# EAGLE library part XC2C128-7TQ144C (library CPLD)
IC CPLD 128MC 7NS 144QFP Manufacturer's datasheet <https://www.xilinx.com/support/documentation/data_sheets/ds093.pdf>
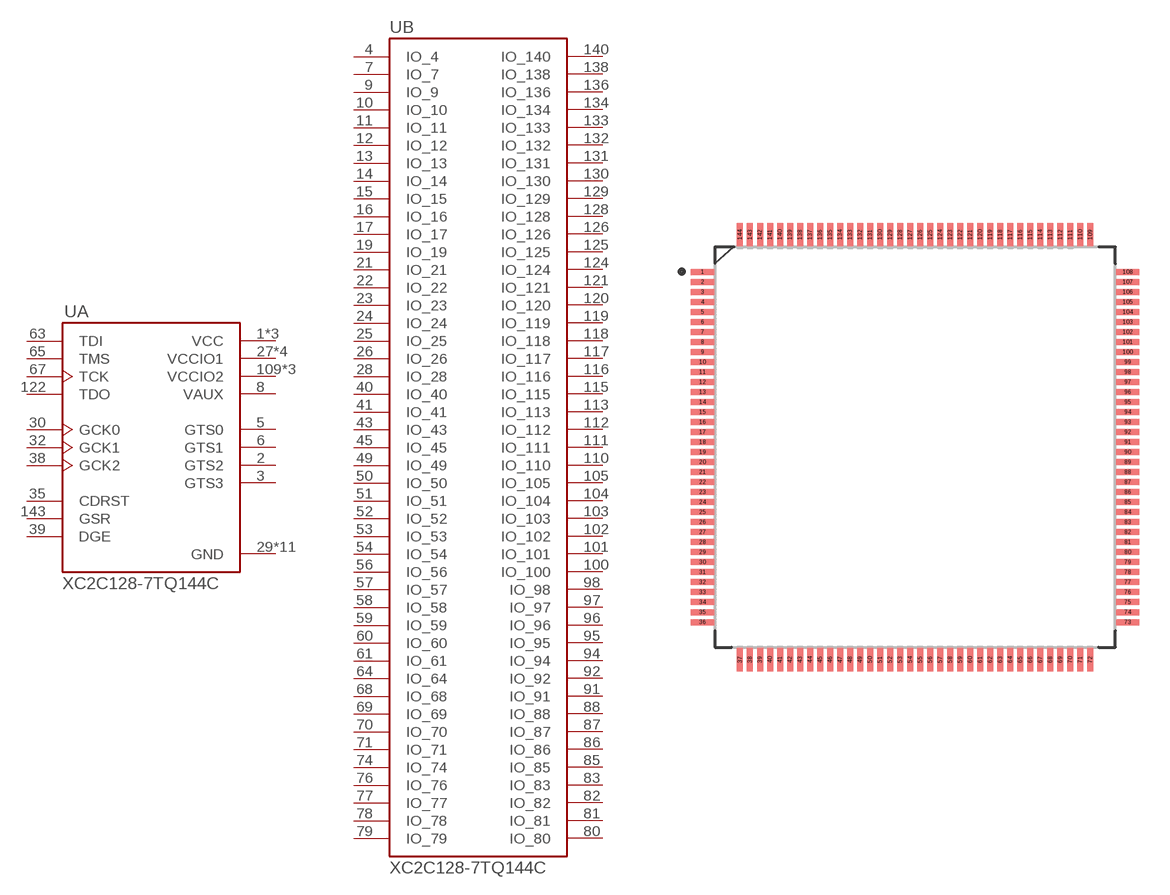
[diagram p6: symbol with the pads of TQFP144; footprint TQFP144]

Designator prefix U; gates A=XC2C128-7TQ144C_A B=XC2C128-7TQ144C_B

## XC2C128-7TQ144C144-TQFP-L (CREATED_BY: PCBLayout.com; DIGIKEY_PARTNO: 122-1397-ND; MANUFACTURER: Xilinx Inc; MPN: XC2C128-7TQ144C; PACKAGE: TQFP-144)  [TQFP144]
1  A:VCC  pwr
2  A:GTS2
3  A:GTS3
4  B:IO_4
5  A:GTS0
6  A:GTS1
7  B:IO_7
8  A:VAUX  pwr
9  B:IO_9
10  B:IO_10
11  B:IO_11
12  B:IO_12
13  B:IO_13
14  B:IO_14
15  B:IO_15
16  B:IO_16
17  B:IO_17
19  B:IO_19
21  B:IO_21
22  B:IO_22
23  B:IO_23
24  B:IO_24
25  B:IO_25
26  B:IO_26
27  A:VCCIO1  pwr
28  B:IO_28
29  A:GND  pwr
30  A:GCK0
32  A:GCK1
35  A:CDRST  in
36  A:GND  pwr
37  A:VCC  pwr
38  A:GCK2
39  A:DGE  in
40  B:IO_40
41  B:IO_41
43  B:IO_43
45  B:IO_45
47  A:GND  pwr
49  B:IO_49
50  B:IO_50
51  B:IO_51
52  B:IO_52
53  B:IO_53
54  B:IO_54
55  A:VCCIO1  pwr
56  B:IO_56
57  B:IO_57
58  B:IO_58
59  B:IO_59
60  B:IO_60
61  B:IO_61
62  A:GND  pwr
63  A:TDI  in
64  B:IO_64
65  A:TMS  in
67  A:TCK
68  B:IO_68
69  B:IO_69
70  B:IO_70
71  B:IO_71
72  A:GND  pwr
73  A:VCCIO1  pwr
74  B:IO_74
76  B:IO_76
77  B:IO_77
78  B:IO_78
79  B:IO_79
80  B:IO_80
81  B:IO_81
82  B:IO_82
83  B:IO_83
84  A:VCC  pwr
85  B:IO_85
86  B:IO_86
87  B:IO_87
88  B:IO_88
89  A:GND  pwr
90  A:GND  pwr
91  B:IO_91
92  B:IO_92
93  A:VCCIO1  pwr
94  B:IO_94
95  B:IO_95
96  B:IO_96
97  B:IO_97
98  B:IO_98
99  A:GND  pwr
100  B:IO_100
101  B:IO_101
102  B:IO_102
103  B:IO_103
104  B:IO_104
105  B:IO_105
108  A:GND  pwr
109  A:VCCIO2  pwr
110  B:IO_110
111  B:IO_111
112  B:IO_112
113  B:IO_113
115  B:IO_115
116  B:IO_116
117  B:IO_117
118  B:IO_118
119  B:IO_119
120  B:IO_120
121  B:IO_121
122  A:TDO  out
123  A:GND  pwr
124  B:IO_124
125  B:IO_125
126  B:IO_126
127  A:VCCIO2  pwr
128  B:IO_128
129  B:IO_129
130  B:IO_130
131  B:IO_131
132  B:IO_132
133  B:IO_133
134  B:IO_134
136  B:IO_136
138  B:IO_138
140  B:IO_140
141  A:VCCIO2  pwr
143  A:GSR  in
144  A:GND  pwr

## Footprint TQFP144 (pad centres in mm)
smd 1.17 x 0.3: 1 -10.62,8.75; 2 -10.62,8.25; 3 -10.62,7.75; 4 -10.62,7.25; 5 -10.62,6.75; 6 -10.62,6.25; 7 -10.62,5.75; 8 -10.62,5.25; 9 -10.62,4.75; 10 -10.62,4.25; 11 -10.62,3.75; 12 -10.62,3.25; 13 -10.62,2.75; 14 -10.62,2.25; 15 -10.62,1.75; 16 -10.62,1.25; 17 -10.62,0.75; 18 -10.62,0.25; 19 -10.62,-0.25; 20 -10.62,-0.75; 21 -10.62,-1.25; 22 -10.62,-1.75; 23 -10.62,-2.25; 24 -10.62,-2.75; 25 -10.62,-3.25; 26 -10.62,-3.75; 27 -10.62,-4.25; 28 -10.62,-4.75; 29 -10.62,-5.25; 30 -10.62,-5.75; 31 -10.62,-6.25; 32 -10.62,-6.75; 33 -10.62,-7.25; 34 -10.62,-7.75; 35 -10.62,-8.25; 36 -10.62,-8.75; 73 10.62,-8.75; 74 10.62,-8.25; 75 10.62,-7.75; 76 10.62,-7.25; 77 10.62,-6.75; 78 10.62,-6.25; 79 10.62,-5.75; 80 10.62,-5.25; 81 10.62,-4.75; 82 10.62,-4.25; 83 10.62,-3.75; 84 10.62,-3.25; 85 10.62,-2.75; 86 10.62,-2.25; 87 10.62,-1.75; 88 10.62,-1.25; 89 10.62,-0.75; 90 10.62,-0.25; 91 10.62,0.25; 92 10.62,0.75; 93 10.62,1.25; 94 10.62,1.75; 95 10.62,2.25; 96 10.62,2.75; 97 10.62,3.25; 98 10.62,3.75; 99 10.62,4.25; 100 10.62,4.75; 101 10.62,5.25; 102 10.62,5.75; 103 10.62,6.25; 104 10.62,6.75; 105 10.62,7.25; 106 10.62,7.75; 107 10.62,8.25; 108 10.62,8.75
smd 0.3 x 1.17: 37 -8.75,-10.62; 38 -8.25,-10.62; 39 -7.75,-10.62; 40 -7.25,-10.62; 41 -6.75,-10.62; 42 -6.25,-10.62; 43 -5.75,-10.62; 44 -5.25,-10.62; 45 -4.75,-10.62; 46 -4.25,-10.62; 47 -3.75,-10.62; 48 -3.25,-10.62; 49 -2.75,-10.62; 50 -2.25,-10.62; 51 -1.75,-10.62; 52 -1.25,-10.62; 53 -0.75,-10.62; 54 -0.25,-10.62; 55 0.25,-10.62; 56 0.75,-10.62; 57 1.25,-10.62; 58 1.75,-10.62; 59 2.25,-10.62; 60 2.75,-10.62; 61 3.25,-10.62; 62 3.75,-10.62; 63 4.25,-10.62; 64 4.75,-10.62; 65 5.25,-10.62; 66 5.75,-10.62; 67 6.25,-10.62; 68 6.75,-10.62; 69 7.25,-10.62; 70 7.75,-10.62; 71 8.25,-10.62; 72 8.75,-10.62; 109 8.75,10.62; 110 8.25,10.62; 111 7.75,10.62; 112 7.25,10.62; 113 6.75,10.62; 114 6.25,10.62; 115 5.75,10.62; 116 5.25,10.62; 117 4.75,10.62; 118 4.25,10.62; 119 3.75,10.62; 120 3.25,10.62; 121 2.75,10.62; 122 2.25,10.62; 123 1.75,10.62; 124 1.25,10.62; 125 0.75,10.62; 126 0.25,10.62; 127 -0.25,10.62; 128 -0.75,10.62; 129 -1.25,10.62; 130 -1.75,10.62; 131 -2.25,10.62; 132 -2.75,10.62; 133 -3.25,10.62; 134 -3.75,10.62; 135 -4.25,10.62; 136 -4.75,10.62; 137 -5.25,10.62; 138 -5.75,10.62; 139 -6.25,10.62; 140 -6.75,10.62; 141 -7.25,10.62; 142 -7.75,10.62; 143 -8.25,10.62; 144 -8.75,10.62